# EAGLE library part M37906(42PIN) (library renesas_mcu)
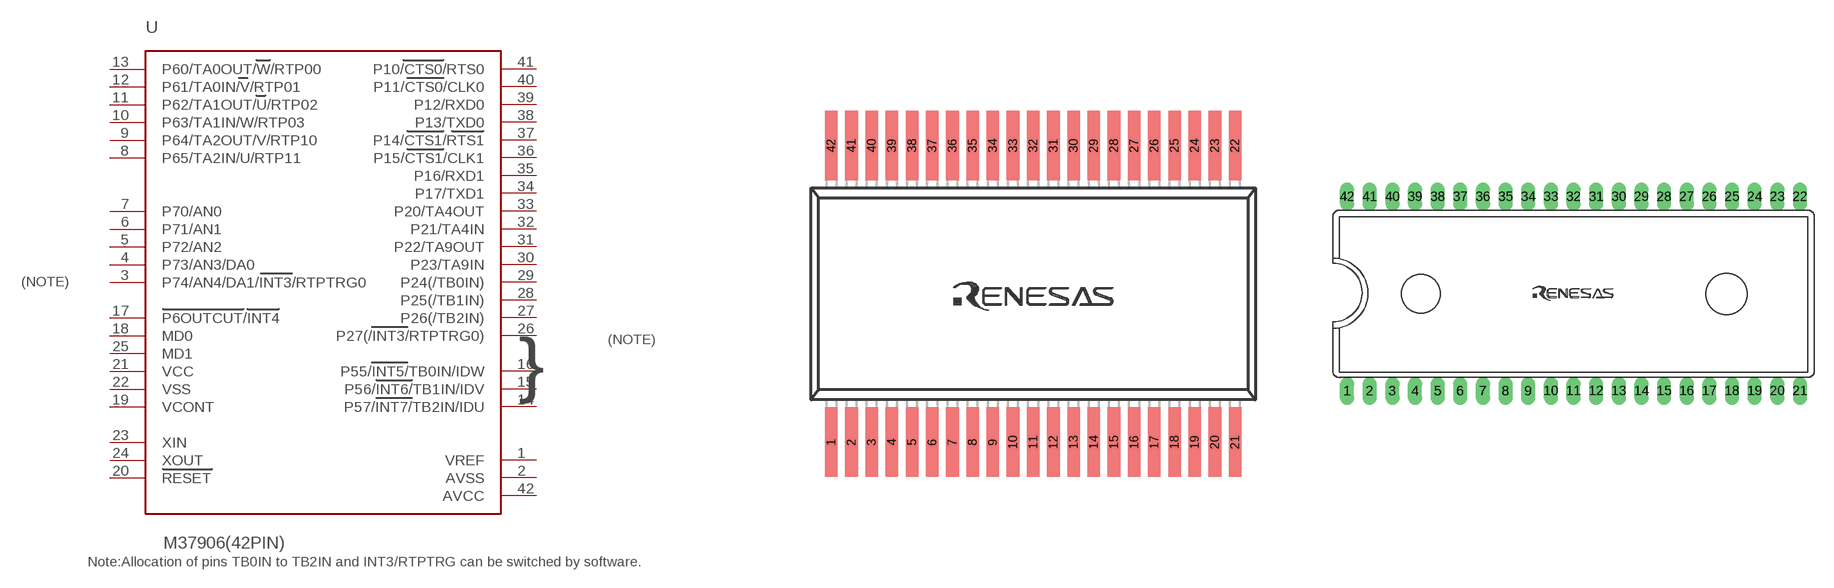
[diagram p29: symbol with the pads of 42P2R-E; footprints 42P2R-E, 42P4B]

Designator prefix -

## M37906(42PIN)1  [42P2R-E]
1  VREF  in
2  AVSS  pwr
3  P74/AN4/DA1/INT3/RTPTRG0
4  P73/AN3/DA0
5  P72/AN2
6  P71/AN1
7  P70/AN0
8  P65/TA2IN/U/RTP11
9  P64/TA2OUT/V/RTP10
10  P63/TA1IN/W/RTP03
11  P62/TA1OUT/U/RTP02
12  P61/TA0IN/V/RTP01
13  P60/TA0OUT/W/RTP00
14  P57/INT7/TB2IN/IDU  in
15  P56/INT6/TB1IN/IDV
16  P55/INT5/TB0IN/IDW
17  P6OUTCUT/INT4  in
18  MD0  in
19  VCONT  in
20  RESET  in
21  VCC  pwr
22  VSS  pwr
23  XIN  in
24  XOUT  out
25  MD1  in
26  P27(/INT3/RTPTRG0)  in
27  P26(/TB2IN)
28  P25(/TB1IN)
29  P24(/TB0IN)
30  P23/TA9IN
31  P22/TA9OUT
32  P21/TA4IN  in
33  P20/TA4OUT
34  P17/TXD1
35  P16/RXD1
36  P15/CTS1/CLK1
37  P14/CTS1/RTS1
38  P13/TXD0
39  P12/RXD0
40  P11/CTS0/CLK0
41  P10/CTS0/RTS0
42  AVCC  pwr

## M37906(42PIN)2  [42P4B]
Pads as for 42P2R-E

## Footprint 42P2R-E (pad centres in mm)
smd 0.5 x 2.75: 1 -8,-5.875; 2 -7.2,-5.875; 3 -6.4,-5.875; 4 -5.6,-5.875; 5 -4.8,-5.875; 6 -4,-5.875; 7 -3.2,-5.875; 8 -2.4,-5.875; 9 -1.6,-5.875; 10 -0.8,-5.875; 11 0,-5.875; 12 0.8,-5.875; 13 1.6,-5.875; 14 2.4,-5.875; 15 3.2,-5.875; 16 4,-5.875; 17 4.8,-5.875; 18 5.6,-5.875; 19 6.4,-5.875; 20 7.2,-5.875; 21 8,-5.875; 22 8,5.875; 23 7.2,5.875; 24 6.4,5.875; 25 5.6,5.875; 26 4.8,5.875; 27 4,5.875; 28 3.2,5.875; 29 2.4,5.875; 30 1.6,5.875; 31 0.8,5.875; 32 0,5.875; 33 -0.8,5.875; 34 -1.6,5.875; 35 -2.4,5.875; 36 -3.2,5.875; 37 -4,5.875; 38 -4.8,5.875; 39 -5.6,5.875; 40 -6.4,5.875; 41 -7.2,5.875; 42 -8,5.875

## Footprint 42P4B (pad centres in mm)
drill 0.61 long: 1 -17.78,-7.62; 2 -16.002,-7.62; 3 -14.224,-7.62; 4 -12.446,-7.62; 5 -10.668,-7.62; 6 -8.89,-7.62; 7 -7.112,-7.62; 8 -5.334,-7.62; 9 -3.556,-7.62; 10 -1.778,-7.62; 11 0,-7.62; 12 1.778,-7.62; 13 3.556,-7.62; 14 5.334,-7.62; 15 7.112,-7.62; 16 8.89,-7.62; 17 10.668,-7.62; 18 12.446,-7.62; 19 14.224,-7.62; 20 16.002,-7.62; 21 17.78,-7.62; 22 17.78,7.62; 23 16.002,7.62; 24 14.224,7.62; 25 12.446,7.62; 26 10.668,7.62; 27 8.89,7.62; 28 7.112,7.62; 29 5.334,7.62; 30 3.556,7.62; 31 1.778,7.62; 32 0,7.62; 33 -1.778,7.62; 34 -3.556,7.62; 35 -5.334,7.62; 36 -7.112,7.62; 37 -8.89,7.62; 38 -10.668,7.62; 39 -12.446,7.62; 40 -14.224,7.62; 41 -16.002,7.62; 42 -17.78,7.62